# Altium schematic symbol library SCH - POWER - LINEAR VREG - TI TPS76715QPWP.SchLib: 1 symbol
Pins are listed as number, name and electrical type; pins without a type are passive.

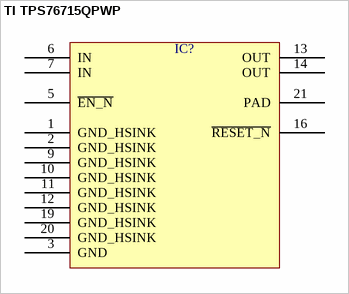
[diagram p0: symbol TI TPS76715QPWP]

## TI TPS76715QPWP
designator IC?  (value not drawn)
pins: 1 GND_HSINK, 2 GND_HSINK, 3 GND, 5 ~{EN_N}, 6 IN, 7 IN, 9 GND_HSINK, 10 GND_HSINK, 11 GND_HSINK, 12 GND_HSINK, 13 OUT, 14 OUT, 16 ~{RESET_N}, 19 GND_HSINK, 20 GND_HSINK, 21 PAD